# Altium schematic symbol library LF353P.SchLib: 1 symbol
Pins are listed as number, name and electrical type; pins without a type are passive.

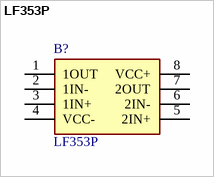
[diagram p0: symbol LF353P]

## LF353P
designator B?
Dual General-Purpose JFET-input Operational Amplifier; Manufacturer_Name: Texas Instruments; Geometry.Height: 5.08mm; Mouser Part Number: 595-LF353P; Mouser Price/Stock: https://www.mouser.co.uk/ProductDetail/Texas-Instruments/LF353P?qs=EIjG%252BN7kn%252BnHJN43AgArjw%3D%3D; Manufacturer_Part_Number: LF353P; Datasheet Link: http://www.ti.com/lit/ds/symlink/lf353.pdf
footprint DIP794W53P254L959H508Q8N
pins: 1 1OUT, 2 1IN-, 3 1IN+, 4 VCC-, 5 2IN+, 6 2IN-, 7 2OUT, 8 VCC+